# Altium schematic symbol library BOURNS Shielded High Power Inductors.SchLib: 6 symbols
Pins are listed as number, name and electrical type; pins without a type are passive.

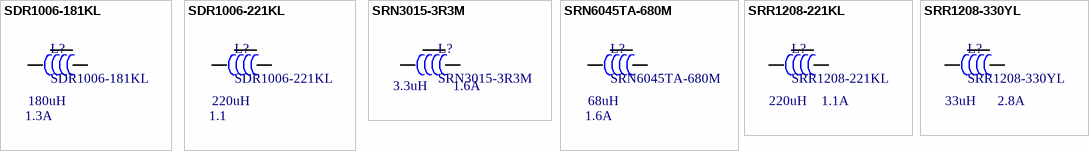
[diagram p0: symbols SDR1006-181KL to SRR1208-330YL]

## SDR1006-181KL
designator L?  value 180uH  Isat: 1.3A
SDR1006 High Power Inductor; Irms: 0.72A
footprint SDR1006 (SDR1006 Series - High Power Inductors (Bourns))
pins: 1, 2

## SDR1006-221KL
designator L?  value 220uH  Isat: 1.1
SDR1006 High Power Inductor; Irms: 0.66A
footprint SDR1006 (SDR1006 Series - High Power Inductors (Bourns))
pins: 1, 2

## SRN3015-3R3M
designator L?  value 3.3uH  Max Current: 1.6A
SRN3015 Shielded High Power Inductor
footprint SRN3015 (SRN3015 Series - Shielded High Power Inductors (Bourns))
pins: 1, 2

## SRN6045TA-680M
designator L?  value 68uH  Isat: 1.6A
SRN6045TA Inductor; Irms: 1.1A
footprint SRN6045TA (SRN6045TA Series - Semi-Shielded High Power Inductors (Bourns))
pins: 1, 2

## SRR1208-221KL
designator L?  value 220uH  Max Current: 1.1A
SRR1208 Shielded High Power Inductor
footprint SRR1208 (SRR1208 Series - Shielded High Power Inductors (Bourns))
pins: 1, 2

## SRR1208-330YL
designator L?  value 33uH  Max Current: 2.8A
SRR1208 Shielded High Power Inductor; Supplier 1: Digi-Key; Supplier 2: Digi-Key; Supplier Part Number 1: SRR1208-330YLCT-ND; Supplier Part Number 2: SRR1208-330YLTR-ND
footprint SRR1208 (SRR1208 Series - Shielded High Power Inductors (Bourns))
pins: 1, 2